# EAGLE library part MMBD4448HSDW (library Deegou_Discrete)
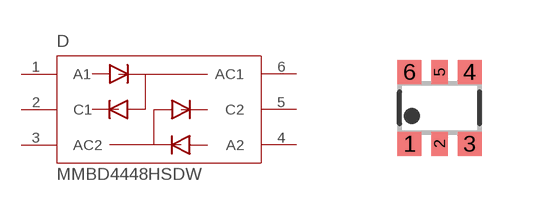
[diagram p1: symbol with the pads of SOT363; footprint SOT363]

Designator prefix D

## MMBD4448HSDW  [SOT363]
1  A1
2  C1
3  AC2
4  A2
5  C2
6  AC1

## Footprint SOT363 (pad centres in mm)
SOT363 Plastic surface-mounted package; 6 leads JEDEC: -- IEC: -- JEITA: SC-88
smd 0.6 x 0.6: 1 -0.75,-0.9; 3 0.75,-0.9; 4 0.75,0.9; 6 -0.75,0.9
smd 0.4 x 0.6: 2 0,-0.9; 5 0,0.9